# EAGLE library part JEDEC_32KB_SRAM (library memory-jedec-jlb)
MEMORY
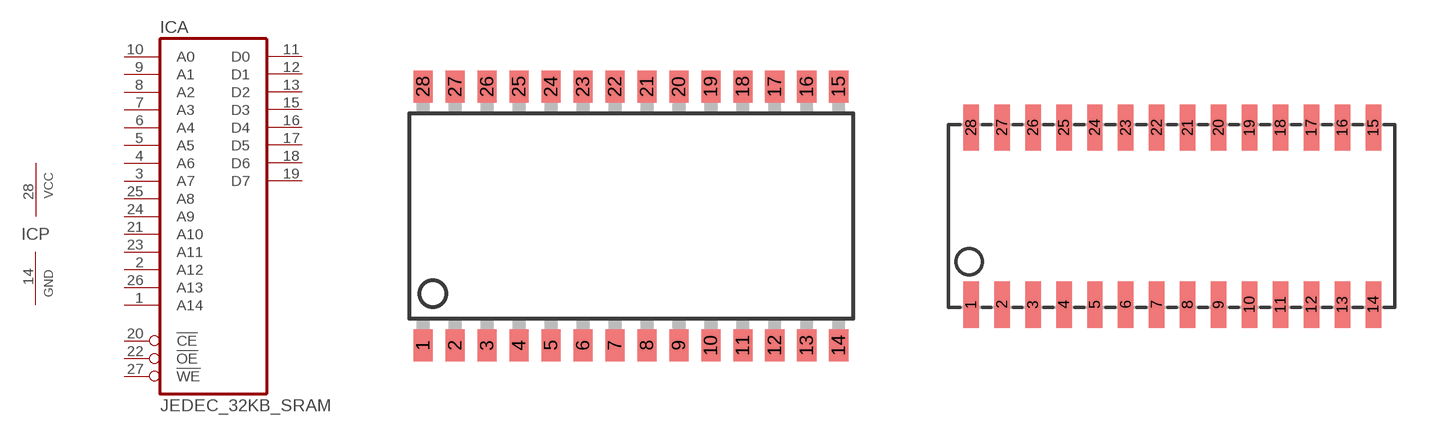
[diagram p0: symbol with the pads of SO28L; footprints SO28L, SOJ28/3]

Designator prefix IC; gates A=JEDEC_32KB_SRAM P=PWR

## JEDEC_32KB_SRAM (MPN: CY62256VNLL-70SNXI; OC_FARNELL: 1650073; OC_NEWARK: 19M2582)  [SO28L]
1  A:A14  in
2  A:A12  in
3  A:A7  in
4  A:A6  in
5  A:A5  in
6  A:A4  in
7  A:A3  in
8  A:A2  in
9  A:A1  in
10  A:A0  in
11  A:D0
12  A:D1
13  A:D2
14  P:GND  pwr
15  A:D3
16  A:D4
17  A:D5
18  A:D6
19  A:D7
20  A:!CE  in
21  A:A10  in
22  A:!OE  in
23  A:A11  in
24  A:A9  in
25  A:A8  in
26  A:A13  in
27  A:!WE  in
28  P:VCC  pwr

## JEDEC_32KB_SRAMY  [SOJ28/3]
Pads as for SO28L

## JEDEC_32KB_SRAM-RP  [DIL28-6-RP]
Pads as for SO28L

## JEDEC_32KB_SRAM-TRP  [DIL28-3-RP]
Pads as for SO28L

## JEDEC_32KB_SRAMN  [TSSOP28]
Pads as for SO28L

## JEDEC_32KB_SRAMZX  [TSOP1-28]
1  A:A5  in
2  A:A6  in
3  A:A7  in
4  A:A8  in
5  A:A9  in
6  A:A10  in
7  A:A11  in
8  A:A12  in
9  A:A13  in
10  A:A14  in
11  A:D0
12  A:D1
13  A:D2
14  P:GND  pwr
15  A:D3
16  A:D4
17  A:D5
18  A:D6
19  A:D7
20  A:!CE  in
21  A:A0  in
22  A:!OE  in
23  A:A1  in
24  A:A2  in
25  A:A3  in
26  A:A4  in
27  A:!WE  in
28  P:VCC  pwr

## JEDEC_32KB_SRAMU  [SOP28]
Pads as for SO28L

## Footprint SO28L (pad centres in mm)
Small Outline large
smd 0.762 x 1.27: 1 -7.62,-5.207; 2 -6.35,-5.207; 3 -5.08,-5.207; 4 -3.81,-5.207; 5 -2.54,-5.207; 6 -1.27,-5.207; 7 0,-5.207; 8 1.27,-5.207; 9 2.54,-5.207; 10 3.81,-5.207; 11 5.08,-5.207; 12 6.35,-5.207; 13 7.62,-5.207; 14 8.89,-5.207; 15 8.89,5.08; 16 7.62,5.08; 17 6.35,5.08; 18 5.08,5.08; 19 3.81,5.08; 20 2.54,5.08; 21 1.27,5.08; 22 0,5.08; 23 -1.27,5.08; 24 -2.54,5.08; 25 -3.81,5.08; 26 -5.08,5.08; 27 -6.35,5.08; 28 -7.62,5.08

## Footprint SOJ28/3 (pad centres in mm)
Small Outline J-Bend
smd 0.635 x 1.905: 1 -8.255,-3.632; 2 -6.985,-3.632; 3 -5.715,-3.632; 4 -4.445,-3.632; 5 -3.175,-3.632; 6 -1.905,-3.632; 7 -0.635,-3.632; 8 0.635,-3.632; 9 1.905,-3.632; 10 3.175,-3.632; 11 4.445,-3.632; 12 5.715,-3.632; 13 6.985,-3.632; 14 8.255,-3.632; 15 8.255,3.632; 16 6.985,3.632; 17 5.715,3.632; 18 4.445,3.632; 19 3.175,3.632; 20 1.905,3.632; 21 0.635,3.632; 22 -0.635,3.632; 23 -1.905,3.632; 24 -3.175,3.632; 25 -4.445,3.632; 26 -5.715,3.632; 27 -6.985,3.632; 28 -8.255,3.632

## Footprint DIL28-6-RP (pad centres in mm)
Dual In Line Package 0.6 inch
drill 0.813 square: 1 -16.51,-7.62
drill 0.813: 2 -13.97,-7.62; 3 -11.43,-7.62; 4 -8.89,-7.62; 5 -6.35,-7.62; 6 -3.81,-7.62; 7 -1.27,-7.62; 8 1.27,-7.62; 9 3.81,-7.62; 10 6.35,-7.62; 11 8.89,-7.62; 12 11.43,-7.62; 13 13.97,-7.62; 14 16.51,-7.62; 15 16.51,7.62; 16 13.97,7.62; 17 11.43,7.62; 18 8.89,7.62; 19 6.35,7.62; 20 3.81,7.62; 21 1.27,7.62; 22 -1.27,7.62; 23 -3.81,7.62; 24 -6.35,7.62; 25 -8.89,7.62; 26 -11.43,7.62; 27 -13.97,7.62; 28 -16.51,7.62

## Footprint DIL28-3-RP (pad centres in mm)
Dual In Line Package Small
drill 0.813 square: 1 -16.51,-3.81
drill 0.813: 2 -13.97,-3.81; 3 -11.43,-3.81; 4 -8.89,-3.81; 5 -6.35,-3.81; 6 -3.81,-3.81; 7 -1.27,-3.81; 8 1.27,-3.81; 9 3.81,-3.81; 10 6.35,-3.81; 11 8.89,-3.81; 12 11.43,-3.81; 13 13.97,-3.81; 14 16.51,-3.81; 15 16.51,3.81; 16 13.97,3.81; 17 11.43,3.81; 18 8.89,3.81; 19 6.35,3.81; 20 3.81,3.81; 21 1.27,3.81; 22 -1.27,3.81; 23 -3.81,3.81; 24 -6.35,3.81; 25 -8.89,3.81; 26 -11.43,3.81; 27 -13.97,3.81; 28 -16.51,3.81

## Footprint TSSOP28 (pad centres in mm)
Thin Shrink Small Outline Plastic 28
smd 0.305 x 0.991: 1 -4.225,-2.918; 2 -3.575,-2.918; 3 -2.925,-2.918; 4 -2.275,-2.918; 5 -1.625,-2.918; 6 -0.975,-2.918; 7 -0.325,-2.918; 8 0.325,-2.918; 9 0.975,-2.918; 10 1.625,-2.918; 11 2.275,-2.918; 12 2.925,-2.918; 13 3.575,-2.918; 14 4.225,-2.918; 15 4.225,2.918; 16 3.575,2.918; 17 2.925,2.918; 18 2.275,2.918; 19 1.625,2.918; 20 0.975,2.918; 21 0.325,2.918; 22 -0.325,2.918; 23 -0.975,2.918; 24 -1.625,2.918; 25 -2.275,2.918; 26 -2.925,2.918; 27 -3.575,2.918; 28 -4.225,2.918

## Footprint TSOP1-28 (pad centres in mm)
TSOP 1-28 28-pin Thin Small Outline Package Type 1 (8 x 13.4 mm) (51-85071) Source: http://download.cypress.com.edgesuite.net/design_resources/datasheets/contents/cy62256_8.pdf
smd 1 x 0.3: 1 -6.5,-0.275; 2 -6.5,-0.825; 3 -6.5,-1.375; 4 -6.5,-1.925; 5 -6.5,-2.475; 6 -6.5,-3.025; 7 -6.5,-3.575; 8 6.5,-3.575; 9 6.5,-3.025; 10 6.5,-2.475; 11 6.5,-1.925; 12 6.5,-1.375; 13 6.5,-0.825; 14 6.5,-0.275; 15 6.5,0.275; 16 6.5,0.825; 17 6.5,1.375; 18 6.5,1.925; 19 6.5,2.475; 20 6.5,3.025; 21 6.5,3.575; 22 -6.5,3.575; 23 -6.5,3.025; 24 -6.5,2.475; 25 -6.5,1.925; 26 -6.5,1.375; 27 -6.5,0.825; 28 -6.5,0.275

## Footprint SOP28 (pad centres in mm)
Small Outline Package
smd 0.5 x 2.2: 1 -8.255,-5.5; 2 -6.985,-5.5; 3 -5.715,-5.5; 4 -4.445,-5.5; 5 -3.175,-5.5; 6 -1.905,-5.5; 7 -0.635,-5.5; 8 0.635,-5.5; 9 1.905,-5.5; 10 3.175,-5.5; 11 4.445,-5.5; 12 5.715,-5.5; 13 6.985,-5.5; 14 8.255,-5.5; 15 8.255,5.5; 16 6.985,5.5; 17 5.715,5.5; 18 4.445,5.5; 19 3.175,5.5; 20 1.905,5.5; 21 0.635,5.5; 22 -0.635,5.5; 23 -1.905,5.5; 24 -3.175,5.5; 25 -4.445,5.5; 26 -5.715,5.5; 27 -6.985,5.5; 28 -8.255,5.5